# Altium footprint library pcblib.pcblib: 4 footprints
Each footprint in its own frame and in the unit in brackets; x right, y up, seen from the top. Pads: shape width x height; smd on the part's side, far side on the other; paste and mask are expansions set on the pad; w line width, h text height; cw(c..) or ccw(c..) is an arc to the next point about the centre after c.
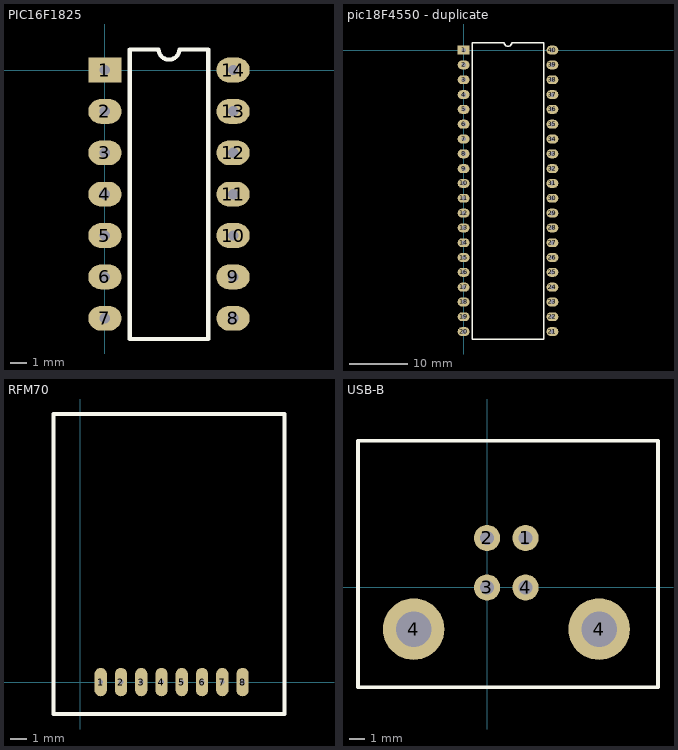
[diagram p0: the footprints below, top view; thin cyan lines are the x and y axes]

## PIC16F1825 [mil]
pads (14):
  rect 80x60 hole 25: 1(0,0)
  oval 80x60 hole 25: 2(0,-100) 3(0,-200) 4(0,-300) 5(0,-400) 6(0,-500) 7(0,-600) 8(310,-600) 9(310,-500) 10(310,-400) 11(310,-300) 12(310,-200) 13(310,-100) 14(310,0)
Top Overlay:
  lines w10: 60,-650 250,-650 250,50 180,50 cw(c155,50) 130,50 60,50 60,-650

## pic18F4550 - duplicate [mil]
pads (40):
  rect 80x60 hole 30: 1(0,0)
  oval 80x60 hole 30: 2(0,-100) 3(0,-200) 4(0,-300) 5(0,-400) 6(0,-500) 7(0,-600) 8(0,-700) 9(0,-800) 10(0,-900) 11(0,-1000) 12(0,-1100) 13(0,-1200) 14(0,-1300) 15(0,-1400) 16(0,-1500) 17(0,-1600) 18(0,-1700) 19(0,-1800) 20(0,-1900) 21(600,-1900) 22(600,-1800) 23(600,-1700) 24(600,-1600) 25(600,-1500) 26(600,-1400) 27(600,-1300) 28(600,-1200) 29(600,-1100) 30(600,-1000) 31(600,-900) 32(600,-800) 33(600,-700) 34(600,-600) 35(600,-500) 36(600,-400) 37(600,-300) 38(600,-200) 39(600,-100) 40(600,0)
Top Overlay:
  lines w10: 60,-1950 60,50 275,50 ccw(c300,50) 325,50 540,50 540,-1950 60,-1950

## RFM70 [mil]
pads (8):
  oval 30.43x70 hole 11.81: 1(50,0) 2(100,0) 3(150,0) 4(200,0) 5(250,0) 6(300,0) 7(350,0) 8(400,0)
Top Overlay:
  lines w10: -66.93,-78.74 -66.93,661.42 503.94,661.42 503.94,-78.74 -66.93,-78.74

## USB-B [mm]
pads (6):
  round 1.7 hole 0.92: 1(2.5,3.215) 2(0,3.215) 3(0,0) 4(2.5,0)
  round 4 hole 2.3: 4(-4.77,-2.71) 4(7.27,-2.71)
Top Overlay:
  lines w0.254: -8.382,-6.477 11.095,-6.477 11.095,9.523 -8.382,9.523 -8.382,-6.477